# Altium schematic symbol library USB4110-GF-A.SCHLIB: 1 symbol
Pins are listed as number, name and electrical type; pins without a type are passive.

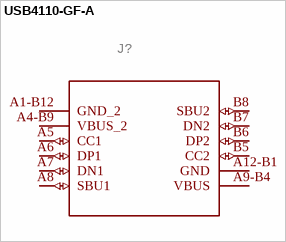
[diagram p0: symbol USB4110-GF-A]

## USB4110-GF-A
designator J?
MFR_NAME: Global Connector Technology; GateName_1: A; SymbolName_1: USB4110-GF-A; LibraryName: USB4110-GF-A; DeviceSetName: USB4110-GF-A; Package: USB4110-GF-A_GCT; COPYRIGHT: Copyright (C) 2023 Ultra Librarian. All rights reserved.; MANUFACTURER_PART_NUMBER: USB4110-GF-A
footprint USB4110-GF-A_GCT
pins: A1-B12 GND_2, A4-B9 VBUS_2 (power), A5 CC1 (io), A6 DP1 (io), A7 DN1 (io), A8 SBU1 (io), A9-B4 VBUS (power), A12-B1 GND, B5 CC2 (io), B6 DP2 (io), B7 DN2 (io), B8 SBU2 (io)